# Altium footprint library RPSLib_Fuses.PcbLib: 2 footprints
Each footprint in its own frame and in the unit in brackets; x right, y up, seen from the top. Pads: shape width x height; smd on the part's side, far side on the other; paste and mask are expansions set on the pad; w line width, h text height; cw(c..) or ccw(c..) is an arc to the next point about the centre after c.
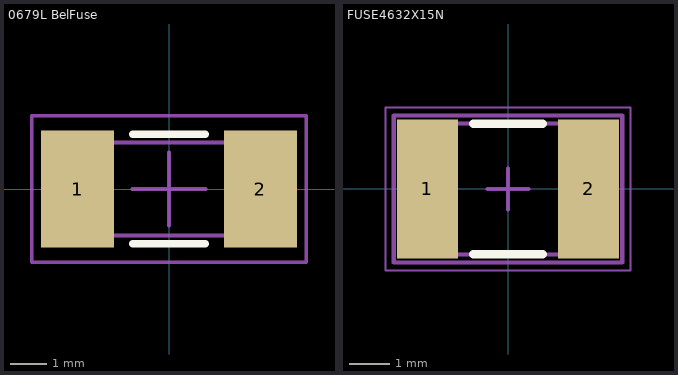
[diagram p0: the footprints below, top view; thin cyan lines are the x and y axes]

## 0679L BelFuse [mm]
height 2.6
pads (2):
  rect 2x3.2 smd mask+0.07: 1(-2.5,0) 2(2.5,0)
Top Overlay:
  lines w0.2: -1,-1.5 1,-1.5 ; -1,1.5 1,1.5
Mechanical 13:
  lines w0.1: -3.05,-1.27 -3.05,1.27 3.05,1.27 3.05,-1.27 -3.05,-1.27
Mechanical 15:
  lines w0.1: -1,0 1,0 ; 0,-1 0,1 ; -3.75,-2 3.75,-2 3.75,2 -3.75,2 -3.75,-2
3D body "User Library-Fuse-2410.step": height 2.54, standoff 0, extent -3.05,-1.27 3.05,1.27

## FUSE4632X15N [mm] "Chip Fuse, 2-Leads, Body 4,55x3,24mm, IPC Medium Density"
height 1.5
pads (2):
  rect 1.5x3.4 smd: 1(-1.975,0) 2(1.975,0)
Top Overlay:
  lines w0.2: -0.85,-1.6 0.85,-1.6 ; -0.85,1.6 0.85,1.6
Mechanical 1:
  lines w0.1: -2.8,-1.8 -2.8,1.8 2.8,1.8 2.8,-1.8 -2.8,-1.8
  text ".Designator" at -2.253,-0.227 h1
Mechanical 13:
  lines w0.1: -2.25,-1.6 -2.25,1.6 2.25,1.6 2.25,-1.6 -2.25,-1.6
Mechanical 15:
  lines w0.05: -3,-2 -3,2 3,2 3,-2 -3,-2
  lines w0.1: -0.5,0 0.5,0 ; 0,-0.5 0,0.5
3D body "0ZCG0150BF2C.stp": height 1.4, standoff 0, extent -2.25,-1.6 2.25,1.6